# EAGLE library part FDC1004DSCT (library ADC)
4 Channel Capacitance to Digital Converter for Capacitive Sensing (Cap Sensing) Solutions Source: Datasheet <http://www.ti.com/lit/ds/snoscy5b/snoscy5b.pdf>
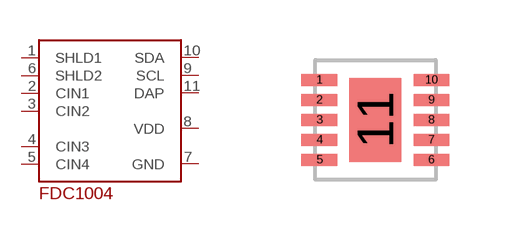
[diagram p0: symbol with the pads of SON50P300X300X80-11N; footprint SON50P300X300X80-11N]

Designator prefix U

## FDC1004DSCT (DESCRIPTION: 4 Channel Capacitance to Digital Converter for Capacitive Sensing (Cap Sensing) Solutions; HEIGHT: 0.8mm; MANUFACTURER_NAME: Texas Instruments; MANUFACTURER_PART_NUMBER: FDC1004DSCT; MOUSER_PART_NUMBER: 595-FDC1004DSCT; MOUSER_PRICE-STOCK: https://www.mouser.com/Search/Refine.aspx?Keyword=595-FDC1004DSCT; RS_PART_NUMBER: 1628571; RS_PRICE-STOCK: http://uk.rs-online.com/web/p/products/1628571)  [SON50P300X300X80-11N]
1  SHLD1  in
2  CIN1  in
3  CIN2  in
4  CIN3  in
5  CIN4  in
6  SHLD2  in
7  GND  pwr
8  VDD  pwr
9  SCL
10  SDA
11  DAP  pwr

## Footprint SON50P300X300X80-11N (pad centres in mm)
DSC0010B
smd 0.9 x 0.3: 1 -1.4,1; 2 -1.4,0.5; 3 -1.4,0; 4 -1.4,-0.5; 5 -1.4,-1; 6 1.4,-1; 7 1.4,-0.5; 8 1.4,0; 9 1.4,0.5; 10 1.4,1
smd 1.3 x 2.1: 11 0,0